# EAGLE library part LM4862MX (library SOIC127P599X175-8N)
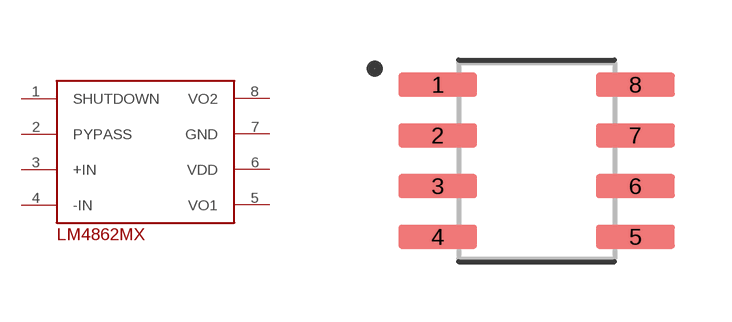
[diagram p0: symbol with the pads of SOIC127P599X175-8N; footprint SOIC127P599X175-8N]

Designator prefix -

## LM4862MX  [SOIC127P599X175-8N]
1  SHUTDOWN  in
2  PYPASS  in
3  +IN  in
4  -IN  in
5  VO1  out
6  VDD  pwr
7  GND  pwr
8  VO2  out

## Footprint SOIC127P599X175-8N (pad centres in mm)
smd 1.97 x 0.6: 1 -2.47,1.905; 2 -2.47,0.635; 3 -2.47,-0.635; 4 -2.47,-1.905; 5 2.47,-1.905; 6 2.47,-0.635; 7 2.47,0.635; 8 2.47,1.905